# Altium schematic symbol library connectors.SchLib: 1 symbol
Pins are listed as number, name and electrical type; pins without a type are passive.

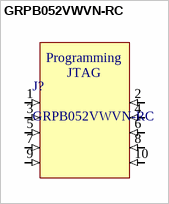
[diagram p0: symbol GRPB052VWVN-RC]

## GRPB052VWVN-RC
designator J?
pins: 1 VDDS (in), 2 JTAG_TMS (in), 3 GND (in), 4 JTAG_TCK (in), 5 GND (in), 6 NC (in), 7 NC (in), 8 NC (in), 9 GND (in), 10 RESET_N (in)
text: Programming; JTAG